# Altium footprint library GMC020080HR.PcbLib: 1 footprints
Each footprint in its own frame and in the unit in brackets; x right, y up, seen from the top. Pads: shape width x height; smd on the part's side, far side on the other; paste and mask are expansions set on the pad; w line width, h text height; cw(c..) or ccw(c..) is an arc to the next point about the centre after c.
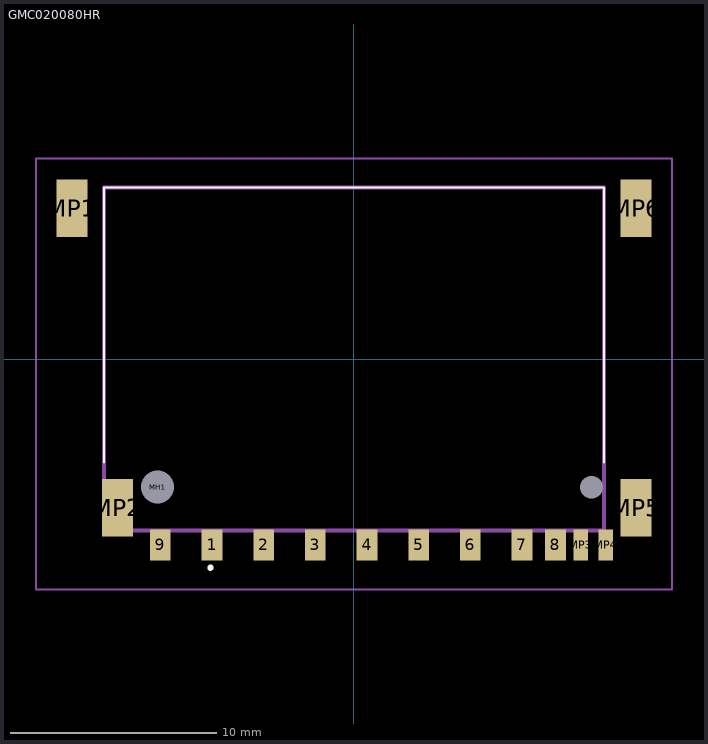
[diagram p0: the footprint, top view; thin cyan lines are the x and y axes]

## GMC020080HR [mm]
pads (17):
  rect 1x1.5 smd: 1(-6.87,-9) 2(-4.37,-9) 3(-1.87,-9) 4(0.63,-9) 5(3.13,-9) 6(5.63,-9) 7(8.13,-9) 8(9.75,-9) 9(-9.37,-9)
  round 0.8 hole 1.6 unplated: MH1(-9.5,-6.2)
  round 0.55 hole 1.1 unplated: MH2(11.5,-6.2)
  rect 1.5x2.8 smd: MP1(-13.65,7.3) MP2(-11.45,-7.2) MP5(13.65,-7.2) MP6(13.65,7.3)
  rect 0.7x1.5 smd: MP3(10.97,-9) MP4(12.18,-9)
Top Overlay:
  lines w0.1: -12.1,-5 -12.1,8.3 ; -12.1,-5 -12.1,-5 ; -12.1,-5 -12.1,8.3 ; -12.1,8.3 -12.1,8.3 ; -12.1,8.3 12.1,8.3 ; -12.1,8.3 -12.1,8.3 ; -12.1,8.3 12.1,8.3 ; 12.1,-5 12.1,-5 ; 12.1,-5 12.1,8.3 ; 12.1,-5 12.1,8.3 ; 12.1,8.3 12.1,8.3 ; 12.1,8.3 12.1,8.3
  lines w0.2: -7,-10.1 -7,-10.1 ; -7,-10.1 ccw(c-6.95,-10.1) -6.9,-10.1 ; -7,-10.1 cw(c-6.95,-10.1) -6.9,-10.1 ; -7,-10.1 -7,-10.1 ; -7,-10.1 ccw(c-6.95,-10.1) -6.9,-10.1 ; -6.9,-10.1 -6.9,-10.1
Mechanical 15:
  lines w0.2: -12.1,-8.3 12.1,-8.3 12.1,8.3 -12.1,8.3 -12.1,-8.3
Mechanical 20:
  lines w0.1: -15.4,-11.15 15.4,-11.15 15.4,9.7 -15.4,9.7 -15.4,-11.15